# Altium footprint library DRV8243_motor_driver.PcbLib: 1 footprints
Each footprint in its own frame and in the unit in brackets; x right, y up, seen from the top. Pads: shape width x height; smd on the part's side, far side on the other; paste and mask are expansions set on the pad; w line width, h text height; cw(c..) or ccw(c..) is an arc to the next point about the centre after c.
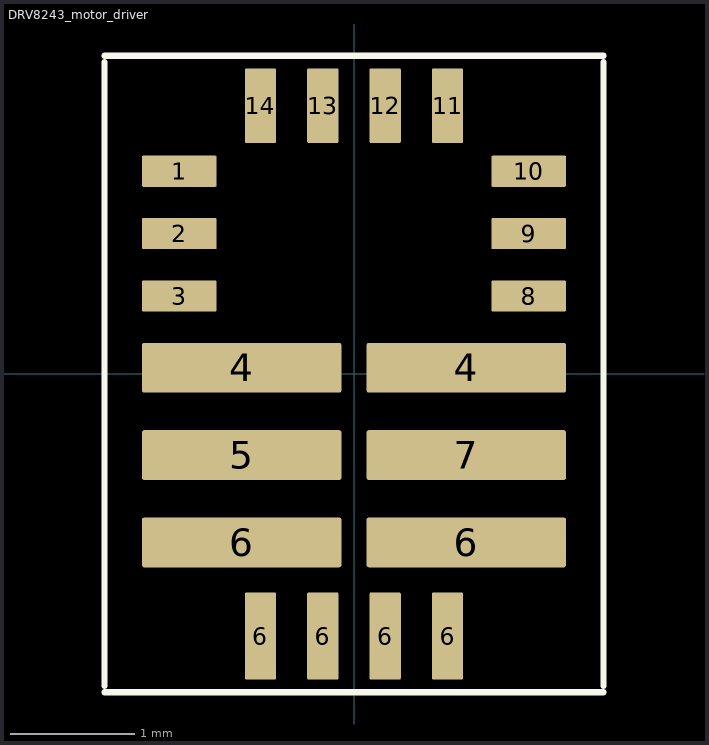
[diagram p0: the footprint, top view; thin cyan lines are the x and y axes]

## DRV8243_motor_driver [mm]
pads (20):
  rrect10% 0.6x0.25 smd: 1(-1.4,1.625) 2(-1.4,1.125) 3(-1.4,0.625) 8(1.4,0.625) 9(1.4,1.125) 10(1.4,1.625)
  rrect10% 1.6x0.4 smd: 4(-0.9,0.05) 4(0.9,0.05) 5(-0.9,-0.65) 6(-0.9,-1.35) 6(0.9,-1.35) 7(0.9,-0.65)
  rrect10% 0.25x0.7 smd: 6(-0.75,-2.1) 6(-0.25,-2.1) 6(0.25,-2.1) 6(0.75,-2.1)
  rrect10% 0.25x0.6 smd: 11(0.75,2.15) 12(0.25,2.15) 13(-0.25,2.15) 14(-0.75,2.15)
Top Overlay:
  lines w0.05: -2,-2.55 2,-2.55 ; -2,-2.5 -2,2.5 ; -2,2.55 2,2.55 ; 2,-2.5 2,2.5
  text "." at -1.396,2.154 h0.5